# EAGLE library part BQ25504 (library zkseagle)
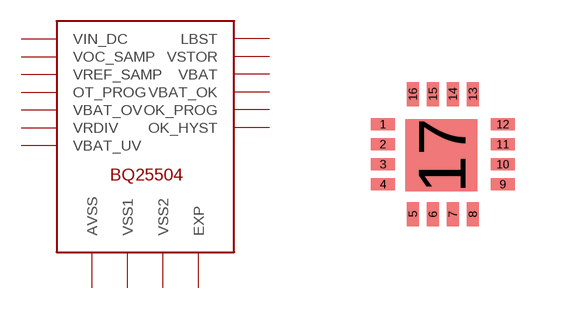
[diagram p18: symbol with the pads of VQFN16_EXP_P; footprint VQFN16_EXP_P]

Designator prefix -

## BQ25504  [VQFN16_EXP_P]
1  VSS1  pwr
2  VIN_DC  pwr
3  VOC_SAMP
4  VREF_SAMP
5  OT_PROG
6  VBAT_OV
7  VRDIV
8  VBAT_UV
9  OK_HYST
10  OK_PROG
11  VBAT_OK
12  AVSS  pwr
13  VSS2  pwr
14  VBAT
15  VSTOR  pwr
16  LBST
17  EXP  pwr

## Footprint VQFN16_EXP_P (pad centres in mm)
Mini Small Outline Package
smd 0.61 x 0.305: 1 -1.5,0.75; 2 -1.5,0.25; 3 -1.5,-0.25; 4 -1.5,-0.75; 9 1.5,-0.75; 10 1.5,-0.25; 11 1.5,0.25; 12 1.5,0.75
smd 0.305 x 0.61: 5 -0.75,-1.5; 6 -0.25,-1.5; 7 0.25,-1.5; 8 0.75,-1.5; 13 0.75,1.5; 14 0.25,1.5; 15 -0.25,1.5; 16 -0.75,1.5
smd 1.8 x 1.8: 17 -0.03,-0.03